# EAGLE library part LM3405 (library myLib)
LED Treiber für HB LED
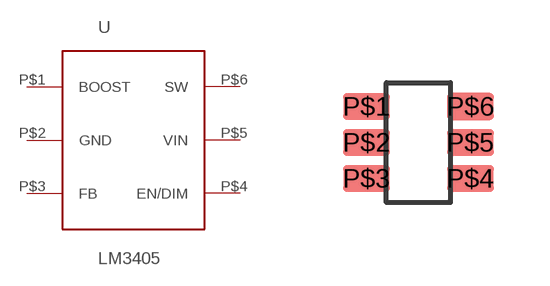
[diagram p0: symbol with the pads of LM3405; footprint LM3405]

Designator prefix -

## LM3405  [LM3405]
P$1  BOOST  out
P$2  GND  pwr
P$3  FB  out
P$4  EN/DIM  in
P$5  VIN  pwr
P$6  SW  out

## Footprint LM3405 (pad centres in mm)
smd 1.17 x 0.67: P$1 -0.5,-0.6; P$2 -0.5,-1.5; P$3 -0.5,-2.4; P$4 2.1,-2.4; P$5 2.1,-1.5; P$6 2.1,-0.6